# Altium schematic symbol library Power_Distribution.SchLib: 1 symbol
Pins are listed as number, name and electrical type; pins without a type are passive.

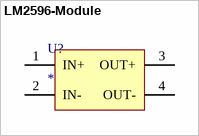
[diagram p0: symbol LM2596-Module]

## LM2596-Module
designator U?
footprint LM2596-FP
pins: 1 IN+, 2 IN-, 3 OUT+, 4 OUT-